# Altium schematic symbol library D.SchLib: 19 symbols
Pins are listed as number, name and electrical type; pins without a type are passive.

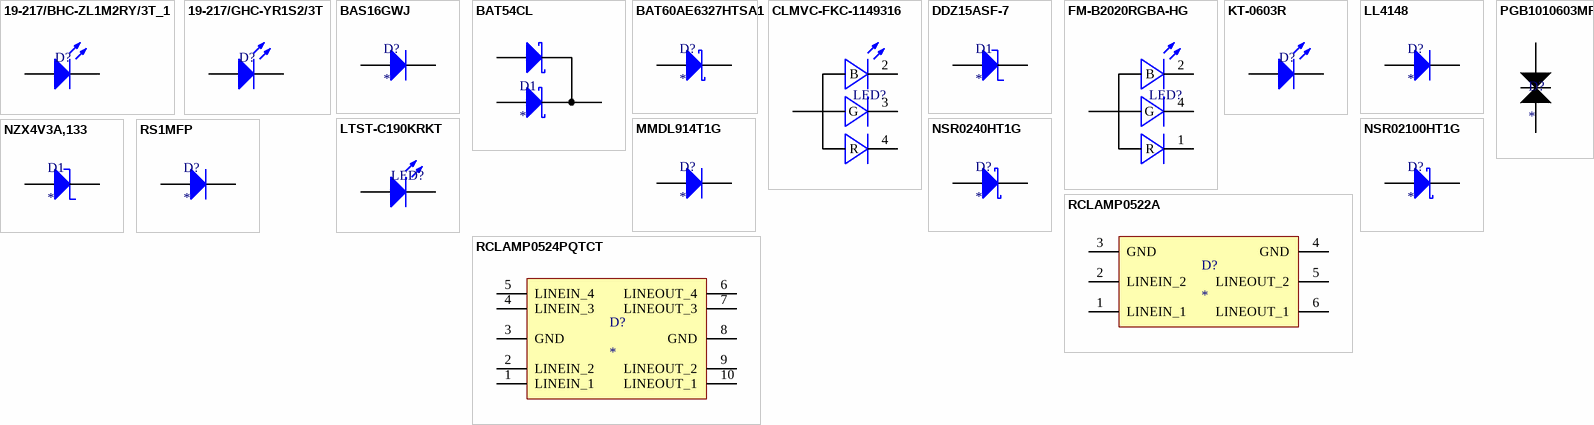
[diagram p0: symbols 19-217/BHC-ZL1M2RY/3T_1 to RS1MFP]

## 19-217/BHC-ZL1M2RY/3T_1
designator D?  (value not drawn)
LED - 0603 - Blue; LCSC Part #: C72041; Availability: Basic
footprint LED 0603 (Chip Diode; Body 1.6 x 0.8 mm (LxW typ))
pins: 1 K, 2 A

## 19-217/GHC-YR1S2/3T
designator D?  (value not drawn)
LED - 0603 - Green; LCSC Part #: C72043; Availability: Basic
footprint LED 0603 (Chip Diode; Body 1.6 x 0.8 mm (LxW typ))
pins: 1 K, 2 A

## BAS16GWJ
designator D?
General Purpose Diodes & Rectifiers 100V; Vrrm: 100; If: 200mA
footprint SOD-123 (SOD-123; 2 Leads; Body 2.7 x 1.6 mm, (LxW))
pins: 1 K, 2 A

## BAT54CL
designator D1
Low Leakage 30V Schottky Dual Diode; Vrrm: 30; If: 200mA
footprint SOT-23-3 (SOT-23; 3 Leads; Body 3.0 x 2.5 mm, inc. leads (LxW max))
pins: 1 A1, 2 A2, 3 K

## BAT60AE6327HTSA1
designator D?
Schottky Diodes & Rectifiers 10V Low Vf; If: 3A; Vf: 0.3V; Vrrm: 10V
footprint SOD-323/SC76
pins: 1 K, 2 A

## CLMVC-FKC-1149316
designator LED?  (value not drawn)
RGB LED
footprint PLCC-4 (CLMVC-FKC  LED)
pins: 1 A, 2 B, 3 G, 4 R

## DDZ15ASF-7
designator D1
Zener Diodes 500mW 13.785V Zener .9V Vf; Vrrm: 13.7; If: 200mA
footprint SOD-323/SC76
pins: 1 K, 2 A2

## FM-B2020RGBA-HG
designator LED?  (value not drawn)
LED - RGB; Availability: Extended; LCSC Part #: C108793
footprint FM-B2020RGBA-HG (FM-B2020RGBA-HG LED)
pins: 1 R, 2 B, 3 A, 4 G

## KT-0603R
designator D?  (value not drawn)
LED - 0603 - Red; LCSC Part #: C2286; Availability: Basic
footprint LED 0603 (Chip Diode; Body 1.6 x 0.8 mm (LxW typ))
pins: 1 K, 2 A

## LL4148
designator D?
General Purpose Diodes & Rectifiers 100V; Vrrm: 100; If: 200mA
footprint SOD-80 (SOD-323/SC-76; 2 Leads; Body 1.7 x 1.3 mm, (LxW))
pins: 1 K, 2 A

## LTST-C190KRKT
designator LED?  (value not drawn)
RED LED
footprint LED 0603 (Chip Diode; Body 1.6 x 0.8 mm (LxW typ))
pins: 1 K, 2 A

## MMDL914T1G
designator D?
General Purpose Diodes & Rectifiers 100V; Vrrm: 100; If: 200mA
footprint SOD-323/SC76
pins: 1 K, 2 A

## NSR0240HT1G
designator D?
Schottky Diodes & Rectifiers 40V; Vrrm: 40; If: 250mA
footprint SOD-323/SC76
pins: 1 K, 2 A

## NSR02100HT1G
designator D?
Schottky Diodes & Rectifiers 100V; Vrrm: 100; If: 200mA
footprint SOD-323/SC76
pins: 1 K, 2 A

## NZX4V3A,133
designator D1
Zener Diode 4.2V; Vrrm: 4.2; If: 200mA
footprint SOD-27 (Footprint not found)
pins: 1 K, 2 A2

## PGB1010603MR
designator D?
ESD Suppressors / TVS Diodes 0603 24VDC .06pF
footprint Diode 0603 (Chip Diode; Body 1.6 x 0.8 mm (LxW typ))
pins: 1, 2

## RCLAMP0522A
designator D?
ESD Suppressors / TVS Diodes RAILCLAMP 2LINE 15V SC75
footprint SLP1610P4-4
pins: 1 LINEIN_1, 2 LINEIN_2, 3 GND, 4 GND, 5 LINEOUT_2, 6 LINEOUT_1

## RCLAMP0524PQTCT
designator D?
ESD Suppressors / TVS Diodes 4-LINE, 5V, 0.8PF ESD/SURG
footprint SLP2510P8-8
pins: 1 LINEIN_1, 2 LINEIN_2, 3 GND, 4 LINEIN_3, 5 LINEIN_4, 6 LINEOUT_4, 7 LINEOUT_3, 8 GND, 9 LINEOUT_2, 10 LINEOUT_1

## RS1MFP
designator D?
Rectifiers 1000V 1.2A Surf Mnt Fast Rec Rectifier; Vrrm: 1000; If: 1200mA
footprint SOD-123 (SOD-123; 2 Leads; Body 2.7 x 1.6 mm, (LxW))
pins: 1 K, 2 A